# Altium schematic symbol library Additional.SchLib: 5 symbols
Pins are listed as number, name and electrical type; pins without a type are passive.

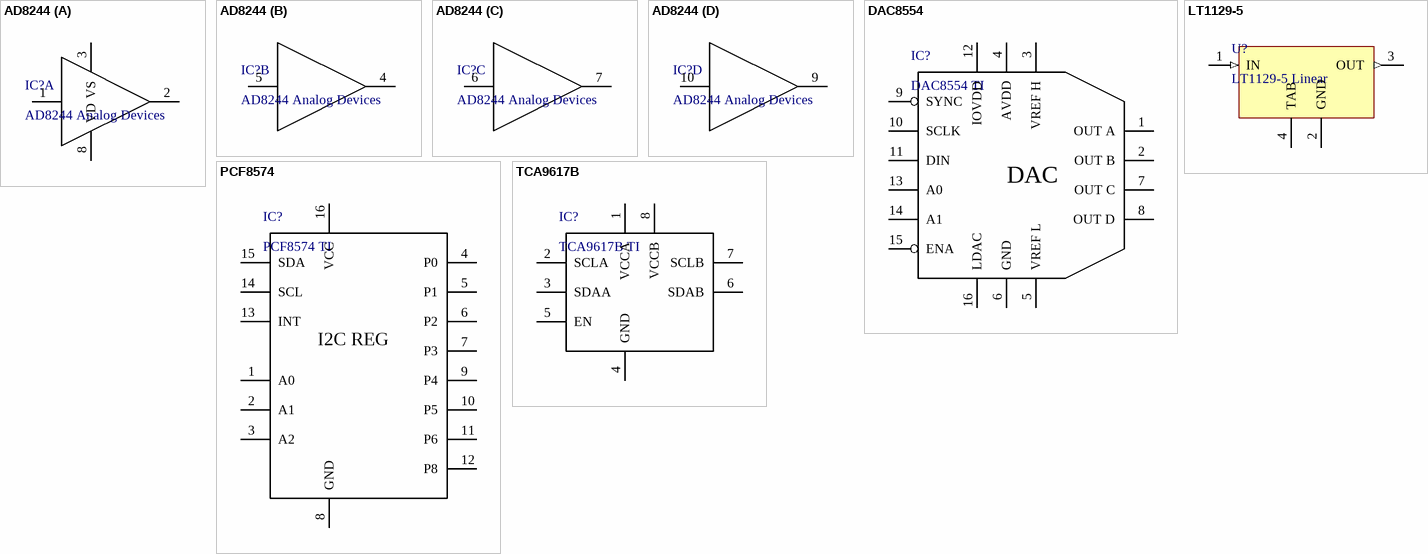
[diagram p0: symbols AD8244 to TCA9617B]

## AD8244
designator IC?, comment AD8244 Analog Devices
Name: AD8244; Manufacturer: Analog Devices
footprint TSSOP50P490X110-10N (TSSOP, 10-Leads, Body 3,00x3,00mm, Pitch 0,50mm, IPC Medium Density)
part A pins: 1 IN A, 2 OUT A, 3 VS, 8 VD
part B pins: 4 OUT B, 5 IN B
part C pins: 6 IN C, 7 OUT C
part D pins: 9 OUT D, 10 IN D

## DAC8554
designator IC?, comment DAC8554 TI
Name: DAC8554; Manufacturer: TI
footprint TSOP65P640X120-16N (TSOP, 16-Leads, Body 5,00x4,40mm, Pitch 0,65mm, IPC Medium Density)
pins: 1 OUT A, 2 OUT B, 3 VREF H, 4 AVDD, 5 VREF L, 6 GND, 7 OUT C, 8 OUT D, 9 SYNC, 10 SCLK, 11 DIN, 12 IOVDD, 13 A0, 14 A1, 15 ENA, 16 LDAC
text: DAC

## LT1129-5
designator U?, comment LT1129-5 Linear
Name: LT1129-5; Manufacturer: Linear
footprint SOT230P700X175-4N (SOT223, 2.30mm pitch; 4 pin, 3.70mm W X 6.70mm L, IPC Medium Density)
pins: 1 IN (in), 2 GND (power), 3 OUT (out), 4 TAB (power)

## PCF8574
designator IC?, comment PCF8574 TI
Name: PCF8574; Manufacturer: TI
footprint SOIC127P1030X265-16N (SOIC, 16-Leads, Body 10,30x7,50mm, Pitch 1,27mm, IPC Medium Density)
pins: 1 A0, 2 A1, 3 A2, 4 P0, 5 P1, 6 P2, 7 P3, 8 GND, 9 P4, 10 P5, 11 P6, 12 P8, 13 INT, 14 SCL, 15 SDA, 16 VCC
text: I2C REG

## TCA9617B
designator IC?, comment TCA9617B TI
Name: TCA9617B; Manufacturer: TI
footprint TSOP65P490X110-8N (TSOP, 8-Leads, Body 3,00x3,00mm, Pitch 0,65mm, IPC Medium Density)
pins: 1 VCCA, 2 SCLA, 3 SDAA, 4 GND, 5 EN, 6 SDAB, 7 SCLB, 8 VCCB